# EAGLE library part PCA9633D16 (library i2c)
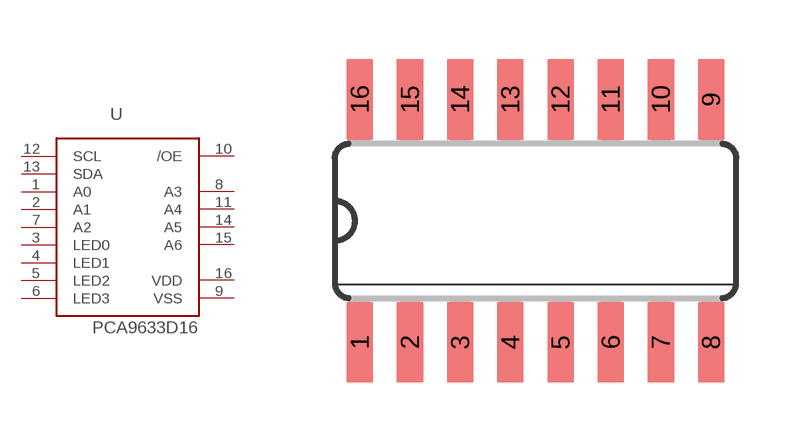
[diagram p15: symbol with the pads of SO16; footprint SO16]

Designator prefix -

## PCA9633D16  [SO16]
1  A0  in
2  A1  in
3  LED0
4  LED1
5  LED2
6  LED3
7  A2  in
8  A3  in
9  VSS  sup
10  /OE  in
11  A4  in
12  SCL  in
13  SDA
14  A5  in
15  A6  in
16  VDD  sup

## Footprint SO16 (pad centres in mm)
smd 0.66 x 2.032: 1 -4.445,-3.073; 2 -3.175,-3.073; 3 -1.905,-3.073; 4 -0.635,-3.073; 5 0.635,-3.073; 6 1.905,-3.073; 7 3.175,-3.073; 8 4.445,-3.073; 9 4.445,3.073; 10 3.175,3.073; 11 1.905,3.073; 12 0.635,3.073; 13 -0.635,3.073; 14 -1.905,3.073; 15 -3.175,3.073; 16 -4.445,3.073